# Altium schematic symbol library CN Pico Clasp 12POS.Schlib: 1 symbol
Pins are listed as number, name and electrical type; pins without a type are passive.

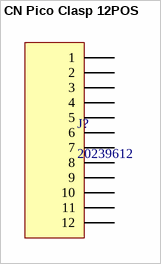
[diagram p0: symbol CN Pico Clasp 12POS]

## CN Pico Clasp 12POS
designator J?, comment 20239612
12 POS Right Angle Pico Clasp Surface Mount
footprint CN 20239612 (12 Circuit SMD Right Angle PicoClasp)
footprint CN 20355612 (12 Circuit SMD Right Angle PicoClasp)
pins: 1, 2, 3, 4, 5, 6, 7, 8, 9, 10, 11, 12